# EAGLE library part 8P8C-LED (library con-rj45)
generic 8P8C connector with two LED's
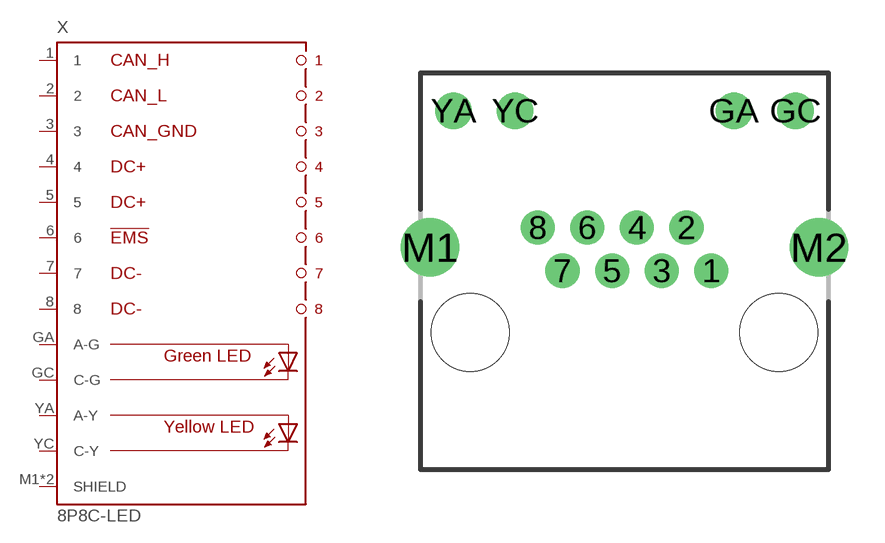
[diagram p0: symbol with the pads of 8P8C-LED; footprint 8P8C-LED]

Designator prefix X

## 8P8C-LED (OC_FARNELL: unknown; OC_NEWARK: unknown)  [8P8C-LED]
1  1  in
2  2  in
3  3  in
4  4  in
5  5  in
6  6  in
7  7  in
8  8  in
GA  A-G  pas
GC  C-G  pas
M1  SHIELD  pas
M2  SHIELD  pas
YA  A-Y  pas
YC  C-Y  pas

## Footprint 8P8C-LED (pad centres in mm)
PULSEJACK (TM) 1x1 Tab-UP RJ45 10/100 Base-TX RJ45 1x1 Tab-UP with LEDs 8-pin (J1 series) and 6-pin (JP series) integrated magnetics connector, designed to support applications, such as ADSL modems, LAN-on-Motherboard, and Hub and Switches. Source: www.pulseeng.com .. PulseJack-J402.pdf
drill 0.9 pad 1.3: 1 3.57,-3.81; 2 2.55,-2.03; 3 1.53,-3.81; 4 0.51,-2.03; 5 -0.51,-3.81; 6 -1.53,-2.03; 7 -2.55,-3.81; 8 -3.57,-2.03
drill 1 pad 1.422: GA 4.5,2.78; GC 7.04,2.78; YA -7.04,2.78; YC -4.5,2.78
drill 1.6 pad 2.184: M1 -8,-2.85; M2 8,-2.85
hole 3.2 at 6.35,-6.35
hole 3.2 at -6.35,-6.35